# EAGLE library part 7_PIN_JST-XH (library JST-XH_HEADERS)
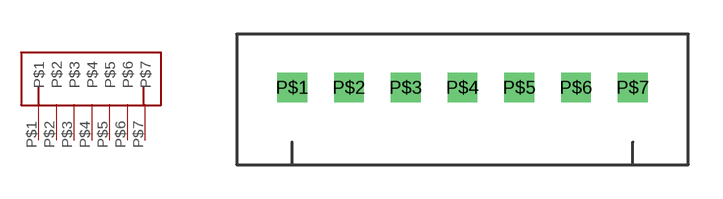
[diagram p0: symbol with the pads of 7_PIN_JST-XH; footprint 7_PIN_JST-XH]

Designator prefix -

## 7_PIN_JST-XH  [7_PIN_JST-XH]
P$1  P$1
P$2  P$2
P$3  P$3
P$4  P$4
P$5  P$5
P$6  P$6
P$7  P$7

## Footprint 7_PIN_JST-XH (pad centres in mm)
drill 0.8 square: P$1 2.45,3.4; P$2 4.95,3.4; P$3 7.45,3.4; P$4 9.95,3.4; P$5 12.45,3.4; P$6 14.95,3.4; P$7 17.45,3.4